# EAGLE library part CD4007 (library eagle-library-engr-245-s22)
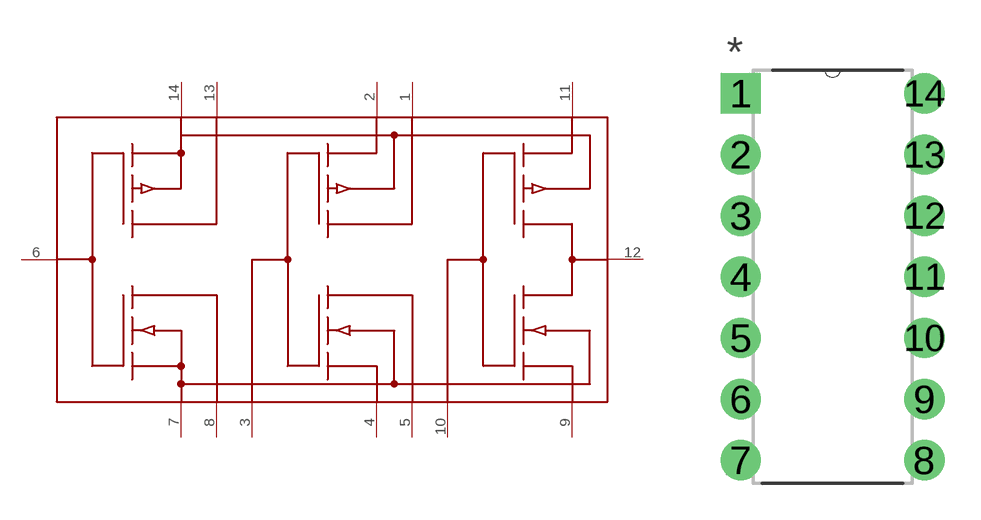
[diagram p18: symbol with the pads of DIP-14; footprint DIP-14]

Designator prefix U

## CD4007  [DIP-14]
1  1
2  2
3  3
4  4
5  5
6  6
7  7
8  8
9  9
10  10
11  11
12  12
13  13
14  14

## Footprint DIP-14 (pad centres in mm)
drill 1.118 square: 1 0,0
drill 1.118: 2 0,-2.54; 3 0,-5.08; 4 0,-7.62; 5 0,-10.16; 6 0,-12.7; 7 0,-15.24; 8 7.62,-15.24; 9 7.62,-12.7; 10 7.62,-10.16; 11 7.62,-7.62; 12 7.62,-5.08; 13 7.62,-2.54; 14 7.62,0